# Altium schematic symbol library Schlib1.SchLib: 2 symbols
Pins are listed as number, name and electrical type; pins without a type are passive.

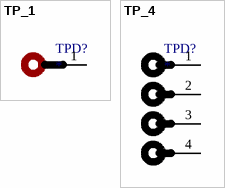
[diagram p0: symbols TP_1 to TP_4]

## TP_1
designator TPD?
footprint TP1
pins: 1 TP1

## TP_4
designator TPD?
footprint TP4
pins: 1 TP1, 2 TP2, 3 TP3, 4 TP4